# Altium schematic symbol library kmilo17pet-TI_RS232.SchLib: 1272 symbols (part 28 of 37)
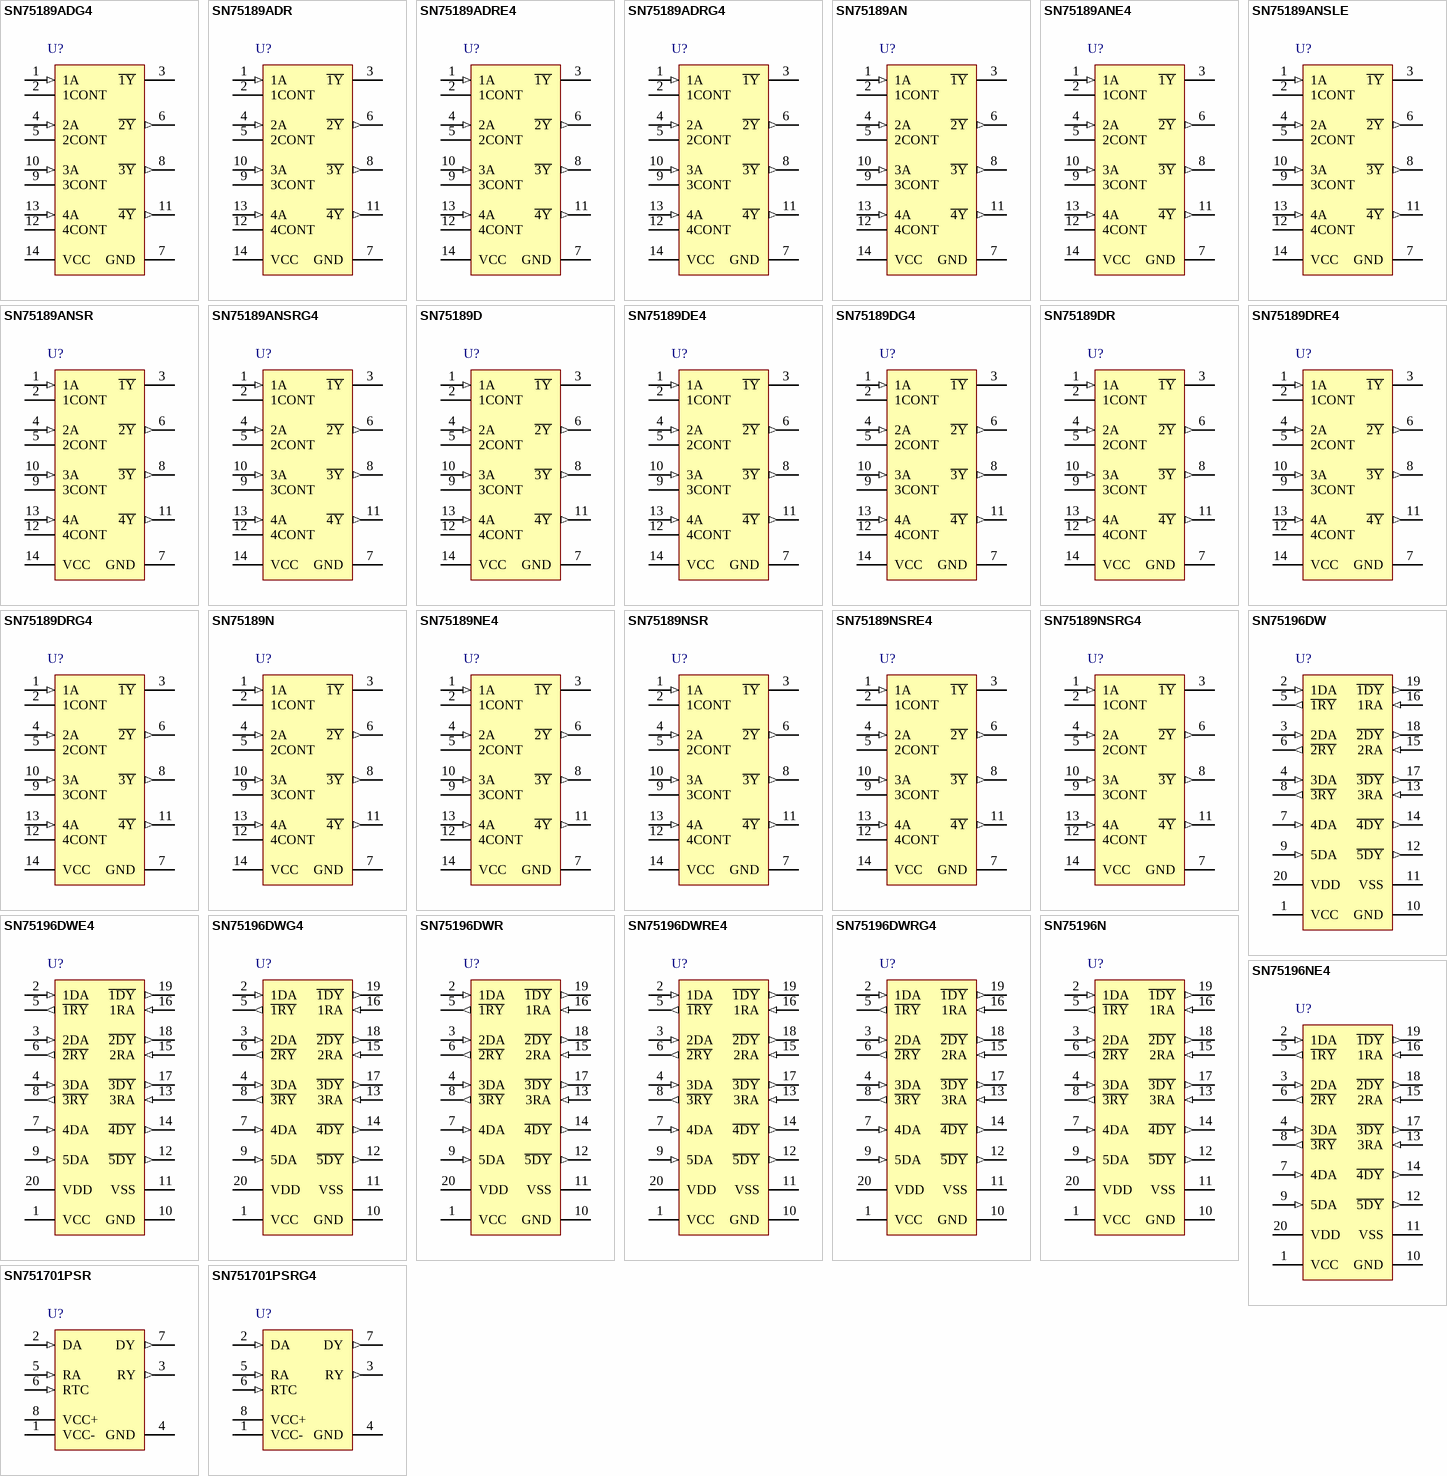
[diagram p81: symbols SN75189ADG4 to SN751701PSRG4]

## SN75196DW
designator U?
Multiple RS-232 Driver / Receiver, 0 to 70 degC, 20-Pin SOIC (DW), Green (RoHS & no Sb/Br); Drivers Per Package: 5; Receivers Per Package: 3; Supply Voltage(s)(V): +/-9.0 & 5.0; ESD HBM(kV): +/-10; ICC(Max)(mA): +/-32 & 20; RS-232: TRUE; DatasheetVersion: SLLS188B; PackageVersion: revG, Jan-2011; PackageReference: DW20; PackageDescription: 20-Pin Plastic Small Outline Integrated Circuit, 12.8 x 7.5 mm, Pitch 1.27 mm Pitch; SubFamily: RS-232; ComponentLink1Description: Manufacturer URL; ComponentLink1URL: www.ti.com; ComponentLink2Description: Datasheet; ComponentLink2URL: http://www.ti.com/general/docs/lit/getliterature.tsp?genericPartNumber=SN75196&fileType=pdf; ComponentLink3Description: Package Specification; ComponentLink3URL: http://www.ti.com/litv/pdf/mpds173a
footprint TI-DW20_N (SOIC, 20-Leads, Body 12.8x7.5mm, Pitch 1.27mm, IPC Medium Density)
footprint TI-DW20_L (SOIC, 20-Leads, Body 12.8x7.5mm, Pitch 1.27mm, IPC High Density)
footprint TI-DW20_M (SOIC, 20-Leads, Body 12.8x7.5mm, Pitch 1.27mm, IPC Low Density)
pins: 1 VCC (power), 2 1DA (in), 3 2DA (in), 4 3DA (in), 5 ~{1RY} (out), 6 ~{2RY} (out), 7 4DA (in), 8 ~{3RY} (out), 9 5DA (in), 10 GND (power), 11 VSS (power), 12 ~{5DY} (out), 13 3RA (in), 14 ~{4DY} (out), 15 2RA (in), 16 1RA (in), 17 ~{3DY} (out), 18 ~{2DY} (out), 19 ~{1DY} (out), 20 VDD (power)

## SN75196DWE4
designator U?
Multiple RS-232 Driver / Receiver, 0 to 70 degC, 20-Pin SOIC (DW), Green (RoHS & no Sb/Br); Drivers Per Package: 5; Receivers Per Package: 3; Supply Voltage(s)(V): +/-9.0 & 5.0; ESD HBM(kV): +/-10; ICC(Max)(mA): +/-32 & 20; RS-232: TRUE; DatasheetVersion: SLLS188B; PackageVersion: revG, Jan-2011; PackageReference: DW20; PackageDescription: 20-Pin Plastic Small Outline Integrated Circuit, 12.8 x 7.5 mm, Pitch 1.27 mm Pitch; SubFamily: RS-232; ComponentLink1Description: Manufacturer URL; ComponentLink1URL: www.ti.com; ComponentLink2Description: Datasheet; ComponentLink2URL: http://www.ti.com/general/docs/lit/getliterature.tsp?genericPartNumber=SN75196&fileType=pdf; ComponentLink3Description: Package Specification; ComponentLink3URL: http://www.ti.com/litv/pdf/mpds173a
footprint TI-DW20_N (SOIC, 20-Leads, Body 12.8x7.5mm, Pitch 1.27mm, IPC Medium Density)
footprint TI-DW20_L (SOIC, 20-Leads, Body 12.8x7.5mm, Pitch 1.27mm, IPC High Density)
footprint TI-DW20_M (SOIC, 20-Leads, Body 12.8x7.5mm, Pitch 1.27mm, IPC Low Density)
pins: 1 VCC (power), 2 1DA (in), 3 2DA (in), 4 3DA (in), 5 ~{1RY} (out), 6 ~{2RY} (out), 7 4DA (in), 8 ~{3RY} (out), 9 5DA (in), 10 GND (power), 11 VSS (power), 12 ~{5DY} (out), 13 3RA (in), 14 ~{4DY} (out), 15 2RA (in), 16 1RA (in), 17 ~{3DY} (out), 18 ~{2DY} (out), 19 ~{1DY} (out), 20 VDD (power)

## SN75196DWG4
designator U?
Multiple RS-232 Driver / Receiver, 0 to 70 degC, 20-Pin SOIC (DW), Green (RoHS & no Sb/Br); Drivers Per Package: 5; Receivers Per Package: 3; Supply Voltage(s)(V): +/-9.0 & 5.0; ESD HBM(kV): +/-10; ICC(Max)(mA): +/-32 & 20; RS-232: TRUE; DatasheetVersion: SLLS188B; PackageVersion: revG, Jan-2011; PackageReference: DW20; PackageDescription: 20-Pin Plastic Small Outline Integrated Circuit, 12.8 x 7.5 mm, Pitch 1.27 mm Pitch; SubFamily: RS-232; ComponentLink1Description: Manufacturer URL; ComponentLink1URL: www.ti.com; ComponentLink2Description: Datasheet; ComponentLink2URL: http://www.ti.com/general/docs/lit/getliterature.tsp?genericPartNumber=SN75196&fileType=pdf; ComponentLink3Description: Package Specification; ComponentLink3URL: http://www.ti.com/litv/pdf/mpds173a
footprint TI-DW20_N (SOIC, 20-Leads, Body 12.8x7.5mm, Pitch 1.27mm, IPC Medium Density)
footprint TI-DW20_L (SOIC, 20-Leads, Body 12.8x7.5mm, Pitch 1.27mm, IPC High Density)
footprint TI-DW20_M (SOIC, 20-Leads, Body 12.8x7.5mm, Pitch 1.27mm, IPC Low Density)
pins: 1 VCC (power), 2 1DA (in), 3 2DA (in), 4 3DA (in), 5 ~{1RY} (out), 6 ~{2RY} (out), 7 4DA (in), 8 ~{3RY} (out), 9 5DA (in), 10 GND (power), 11 VSS (power), 12 ~{5DY} (out), 13 3RA (in), 14 ~{4DY} (out), 15 2RA (in), 16 1RA (in), 17 ~{3DY} (out), 18 ~{2DY} (out), 19 ~{1DY} (out), 20 VDD (power)

## SN75196DWR
designator U?
Multiple RS-232 Driver / Receiver, 0 to 70 degC, 20-Pin SOIC (DW), Green (RoHS & no Sb/Br); Drivers Per Package: 5; Receivers Per Package: 3; Supply Voltage(s)(V): +/-9.0 & 5.0; ESD HBM(kV): +/-10; ICC(Max)(mA): +/-32 & 20; RS-232: TRUE; DatasheetVersion: SLLS188B; PackageVersion: revG, Jan-2011; PackageReference: DW20; PackageDescription: 20-Pin Plastic Small Outline Integrated Circuit, 12.8 x 7.5 mm, Pitch 1.27 mm Pitch; SubFamily: RS-232; ComponentLink1Description: Manufacturer URL; ComponentLink1URL: www.ti.com; ComponentLink2Description: Datasheet; ComponentLink2URL: http://www.ti.com/general/docs/lit/getliterature.tsp?genericPartNumber=SN75196&fileType=pdf; ComponentLink3Description: Package Specification; ComponentLink3URL: http://www.ti.com/litv/pdf/mpds173a
footprint TI-DW20_N (SOIC, 20-Leads, Body 12.8x7.5mm, Pitch 1.27mm, IPC Medium Density)
footprint TI-DW20_L (SOIC, 20-Leads, Body 12.8x7.5mm, Pitch 1.27mm, IPC High Density)
footprint TI-DW20_M (SOIC, 20-Leads, Body 12.8x7.5mm, Pitch 1.27mm, IPC Low Density)
pins: 1 VCC (power), 2 1DA (in), 3 2DA (in), 4 3DA (in), 5 ~{1RY} (out), 6 ~{2RY} (out), 7 4DA (in), 8 ~{3RY} (out), 9 5DA (in), 10 GND (power), 11 VSS (power), 12 ~{5DY} (out), 13 3RA (in), 14 ~{4DY} (out), 15 2RA (in), 16 1RA (in), 17 ~{3DY} (out), 18 ~{2DY} (out), 19 ~{1DY} (out), 20 VDD (power)

## SN75196DWRE4
designator U?
Multiple RS-232 Driver / Receiver, 0 to 70 degC, 20-Pin SOIC (DW), Green (RoHS & no Sb/Br); Drivers Per Package: 5; Receivers Per Package: 3; Supply Voltage(s)(V): +/-9.0 & 5.0; ESD HBM(kV): +/-10; ICC(Max)(mA): +/-32 & 20; RS-232: TRUE; DatasheetVersion: SLLS188B; PackageVersion: revG, Jan-2011; PackageReference: DW20; PackageDescription: 20-Pin Plastic Small Outline Integrated Circuit, 12.8 x 7.5 mm, Pitch 1.27 mm Pitch; SubFamily: RS-232; ComponentLink1Description: Manufacturer URL; ComponentLink1URL: www.ti.com; ComponentLink2Description: Datasheet; ComponentLink2URL: http://www.ti.com/general/docs/lit/getliterature.tsp?genericPartNumber=SN75196&fileType=pdf; ComponentLink3Description: Package Specification; ComponentLink3URL: http://www.ti.com/litv/pdf/mpds173a
footprint TI-DW20_N (SOIC, 20-Leads, Body 12.8x7.5mm, Pitch 1.27mm, IPC Medium Density)
footprint TI-DW20_L (SOIC, 20-Leads, Body 12.8x7.5mm, Pitch 1.27mm, IPC High Density)
footprint TI-DW20_M (SOIC, 20-Leads, Body 12.8x7.5mm, Pitch 1.27mm, IPC Low Density)
pins: 1 VCC (power), 2 1DA (in), 3 2DA (in), 4 3DA (in), 5 ~{1RY} (out), 6 ~{2RY} (out), 7 4DA (in), 8 ~{3RY} (out), 9 5DA (in), 10 GND (power), 11 VSS (power), 12 ~{5DY} (out), 13 3RA (in), 14 ~{4DY} (out), 15 2RA (in), 16 1RA (in), 17 ~{3DY} (out), 18 ~{2DY} (out), 19 ~{1DY} (out), 20 VDD (power)

## SN75196DWRG4
designator U?
Multiple RS-232 Driver / Receiver, 0 to 70 degC, 20-Pin SOIC (DW), Green (RoHS & no Sb/Br); Drivers Per Package: 5; Receivers Per Package: 3; Supply Voltage(s)(V): +/-9.0 & 5.0; ESD HBM(kV): +/-10; ICC(Max)(mA): +/-32 & 20; RS-232: TRUE; DatasheetVersion: SLLS188B; PackageVersion: revG, Jan-2011; PackageReference: DW20; PackageDescription: 20-Pin Plastic Small Outline Integrated Circuit, 12.8 x 7.5 mm, Pitch 1.27 mm Pitch; SubFamily: RS-232; ComponentLink1Description: Manufacturer URL; ComponentLink1URL: www.ti.com; ComponentLink2Description: Datasheet; ComponentLink2URL: http://www.ti.com/general/docs/lit/getliterature.tsp?genericPartNumber=SN75196&fileType=pdf; ComponentLink3Description: Package Specification; ComponentLink3URL: http://www.ti.com/litv/pdf/mpds173a
footprint TI-DW20_N (SOIC, 20-Leads, Body 12.8x7.5mm, Pitch 1.27mm, IPC Medium Density)
footprint TI-DW20_L (SOIC, 20-Leads, Body 12.8x7.5mm, Pitch 1.27mm, IPC High Density)
footprint TI-DW20_M (SOIC, 20-Leads, Body 12.8x7.5mm, Pitch 1.27mm, IPC Low Density)
pins: 1 VCC (power), 2 1DA (in), 3 2DA (in), 4 3DA (in), 5 ~{1RY} (out), 6 ~{2RY} (out), 7 4DA (in), 8 ~{3RY} (out), 9 5DA (in), 10 GND (power), 11 VSS (power), 12 ~{5DY} (out), 13 3RA (in), 14 ~{4DY} (out), 15 2RA (in), 16 1RA (in), 17 ~{3DY} (out), 18 ~{2DY} (out), 19 ~{1DY} (out), 20 VDD (power)

## SN75196N
designator U?
Multiple RS-232 Driver / Receiver, 0 to 70 degC, 20-Pin PDIP (N), Pb-Free (RoHS); Drivers Per Package: 5; Receivers Per Package: 3; Supply Voltage(s)(V): +/-9.0 & 5.0; ESD HBM(kV): +/-10; ICC(Max)(mA): +/-32 & 20; RS-232: TRUE; DatasheetVersion: SLLS188B; PackageVersion: revE, Dec-2002; PackageReference: N20; PackageDescription: 20-Pin Plastic Dual-In-Line Package, Row Spacing 7.62 mm, Pitch 2.54 mm; SubFamily: RS-232; ComponentLink1Description: Manufacturer URL; ComponentLink1URL: www.ti.com; ComponentLink2Description: Datasheet; ComponentLink2URL: http://www.ti.com/general/docs/lit/getliterature.tsp?genericPartNumber=SN75196&fileType=pdf; ComponentLink3Description: Package Specification; ComponentLink3URL: http://www.ti.com/litv/pdf/mpdi002c
footprint TI-N20 (DIP, 20-Leads, Row Spacing 7.62mm, Pitch 2.54mm, Body 25.4x6.4mm)
pins: 1 VCC (power), 2 1DA (in), 3 2DA (in), 4 3DA (in), 5 ~{1RY} (out), 6 ~{2RY} (out), 7 4DA (in), 8 ~{3RY} (out), 9 5DA (in), 10 GND (power), 11 VSS (power), 12 ~{5DY} (out), 13 3RA (in), 14 ~{4DY} (out), 15 2RA (in), 16 1RA (in), 17 ~{3DY} (out), 18 ~{2DY} (out), 19 ~{1DY} (out), 20 VDD (power)

## SN75196NE4
designator U?
Multiple RS-232 Driver / Receiver, 0 to 70 degC, 20-Pin PDIP (N), Pb-Free (RoHS); Drivers Per Package: 5; Receivers Per Package: 3; Supply Voltage(s)(V): +/-9.0 & 5.0; ESD HBM(kV): +/-10; ICC(Max)(mA): +/-32 & 20; RS-232: TRUE; DatasheetVersion: SLLS188B; PackageVersion: revE, Dec-2002; PackageReference: N20; PackageDescription: 20-Pin Plastic Dual-In-Line Package, Row Spacing 7.62 mm, Pitch 2.54 mm; SubFamily: RS-232; ComponentLink1Description: Manufacturer URL; ComponentLink1URL: www.ti.com; ComponentLink2Description: Datasheet; ComponentLink2URL: http://www.ti.com/general/docs/lit/getliterature.tsp?genericPartNumber=SN75196&fileType=pdf; ComponentLink3Description: Package Specification; ComponentLink3URL: http://www.ti.com/litv/pdf/mpdi002c
footprint TI-N20 (DIP, 20-Leads, Row Spacing 7.62mm, Pitch 2.54mm, Body 25.4x6.4mm)
pins: 1 VCC (power), 2 1DA (in), 3 2DA (in), 4 3DA (in), 5 ~{1RY} (out), 6 ~{2RY} (out), 7 4DA (in), 8 ~{3RY} (out), 9 5DA (in), 10 GND (power), 11 VSS (power), 12 ~{5DY} (out), 13 3RA (in), 14 ~{4DY} (out), 15 2RA (in), 16 1RA (in), 17 ~{3DY} (out), 18 ~{2DY} (out), 19 ~{1DY} (out), 20 VDD (power)

## SN751701PSR
designator U?
Line Driver and Receiver, -20 to 70 degC, 8-Pin SO (PS), Green (RoHS & no Sb/Br); SubFamily: RS-232; Drivers Per Package: 1; Supply Voltage(s)(V): +/-12.0; ICC(Max)(mA): +14/-6.1; RS-232: TRUE; DatasheetVersion: SLLS531; PackageVersion: revC, Mar-2003; PackageReference: PS8; PackageDescription: 8-Pin Plastic Small Outline Package, 6.2 x 5.3 mm, Pitch 1.27 mm Pitch; Receivers Per Package: 1; ComponentLink1Description: Manufacturer URL; ComponentLink1URL: www.ti.com; ComponentLink2Description: Datasheet; ComponentLink2URL: http://www.ti.com/general/docs/lit/getliterature.tsp?genericPartNumber=SN751701&fileType=pdf; ComponentLink3Description: Package Specification; ComponentLink3URL: http://www.ti.com/litv/pdf/msop001a
footprint TI-PS8_N (SOP, 8-Leads, Body 6.2x5.3mm, Pitch 1.27mm, IPC Medium Density)
footprint TI-PS8_L (SOP, 8-Leads, Body 6.2x5.3mm, Pitch 1.27mm, IPC High Density)
footprint TI-PS8_M (SOP, 8-Leads, Body 6.2x5.3mm, Pitch 1.27mm, IPC Low Density)
pins: 1 VCC- (power), 2 DA (in), 3 RY (out), 4 GND (power), 5 RA (in), 6 RTC (in), 7 DY (out), 8 VCC+ (power)

## SN751701PSRG4
designator U?
Line Driver and Receiver, -20 to 70 degC, 8-Pin SO (PS), Green (RoHS & no Sb/Br); SubFamily: RS-232; Drivers Per Package: 1; Supply Voltage(s)(V): +/-12.0; ICC(Max)(mA): +14/-6.1; RS-232: TRUE; DatasheetVersion: SLLS531; PackageVersion: revC, Mar-2003; PackageReference: PS8; PackageDescription: 8-Pin Plastic Small Outline Package, 6.2 x 5.3 mm, Pitch 1.27 mm Pitch; Receivers Per Package: 1; ComponentLink1Description: Manufacturer URL; ComponentLink1URL: www.ti.com; ComponentLink2Description: Datasheet; ComponentLink2URL: http://www.ti.com/general/docs/lit/getliterature.tsp?genericPartNumber=SN751701&fileType=pdf; ComponentLink3Description: Package Specification; ComponentLink3URL: http://www.ti.com/litv/pdf/msop001a
footprint TI-PS8_N (SOP, 8-Leads, Body 6.2x5.3mm, Pitch 1.27mm, IPC Medium Density)
footprint TI-PS8_L (SOP, 8-Leads, Body 6.2x5.3mm, Pitch 1.27mm, IPC High Density)
footprint TI-PS8_M (SOP, 8-Leads, Body 6.2x5.3mm, Pitch 1.27mm, IPC Low Density)
pins: 1 VCC- (power), 2 DA (in), 3 RY (out), 4 GND (power), 5 RA (in), 6 RTC (in), 7 DY (out), 8 VCC+ (power)

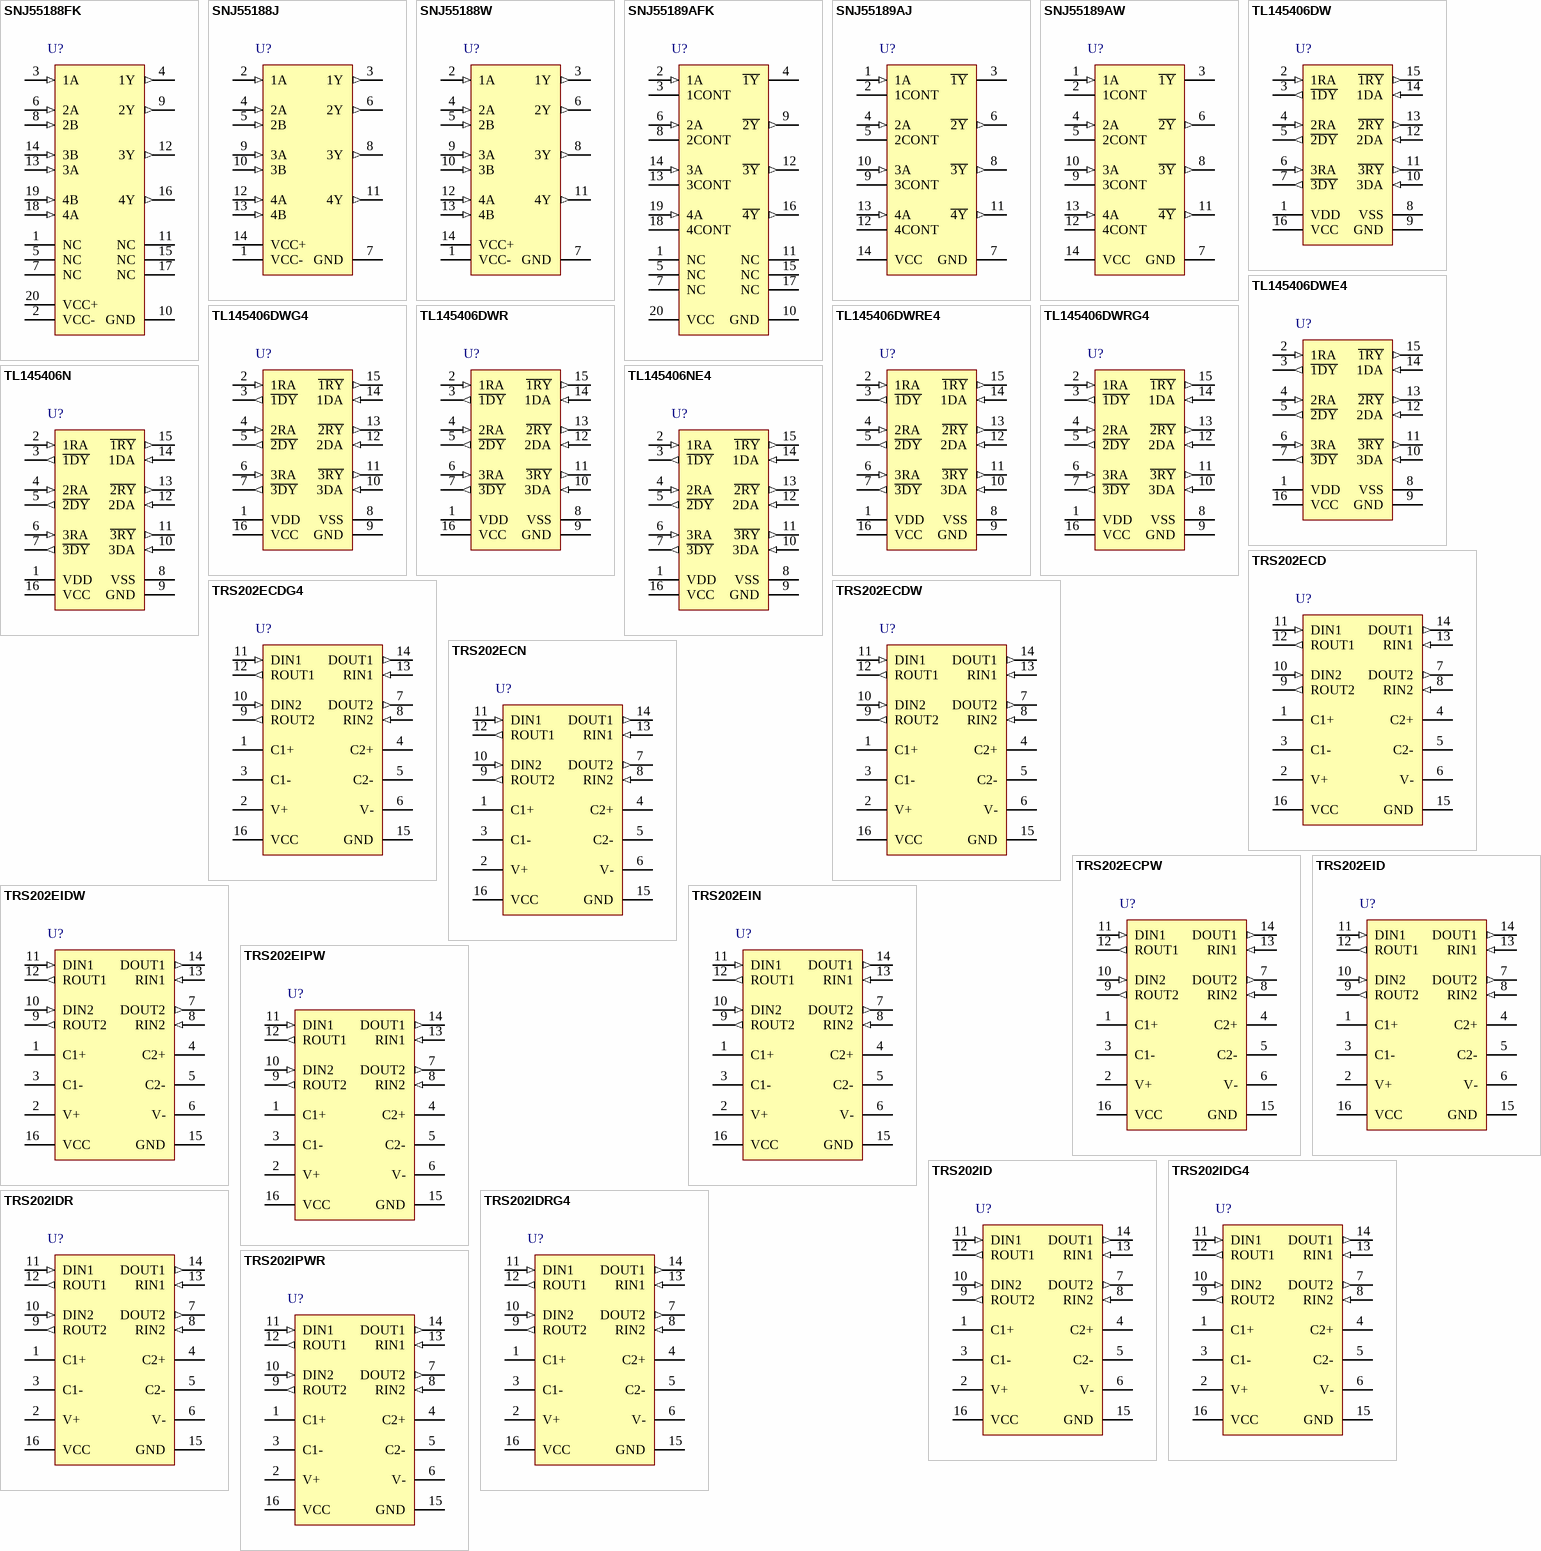
[diagram p41: symbols SNJ55188FK to TRS202IPWR]

## SNJ55188FK
designator U?
Quadruple Line Driver, -55 to 125 degC, 20-Pin LCCC (FK); SubFamily: RS-232; Drivers Per Package: 4; Supply Voltage(s)(V): +/-9.0; ICC(Max)(mA): +/-34; RS-232: TRUE; DatasheetVersion: SLLS094C; PackageVersion: revD, Jan-2011; PackageReference: FK20; PackageDescription: 20-Pin Leadless Ceramic Chip Carrier, 1.27 mm Pitch; ComponentLink1Description: Manufacturer URL; ComponentLink1URL: www.ti.com; ComponentLink2Description: Datasheet; ComponentLink2URL: http://www.ti.com/general/docs/lit/getliterature.tsp?genericPartNumber=SN55188&fileType=pdf; ComponentLink3Description: Package Specification; ComponentLink3URL: http://www.ti.com/litv/pdf/mlcc006d
footprint TI-FK20_N (Leadless Chip Carrier, 20-Leads, Body 8.9x8.9mm, Pitch 1.27mm, IPC Medium Density)
footprint TI-FK20_L (Leadless Chip Carrier, 20-Leads, Body 8.9x8.9mm, Pitch 1.27mm, IPC High Density)
footprint TI-FK20_M (Leadless Chip Carrier, 20-Leads, Body 8.9x8.9mm, Pitch 1.27mm, IPC Low Density)
pins: 1 NC, 2 VCC- (power), 3 1A (in), 4 1Y (out), 5 NC, 6 2A (in), 7 NC, 8 2B (in), 9 2Y (out), 10 GND (power), 11 NC, 12 3Y (out), 13 3A (in), 14 3B (in), 15 NC, 16 4Y (out), 17 NC, 18 4A (in), 19 4B (in), 20 VCC+ (power)

## SNJ55188J
designator U?
Quadruple Line Driver, -55 to 125 degC, 14-Pin CDIP (J); SubFamily: RS-232; Drivers Per Package: 4; Supply Voltage(s)(V): +/-9.0; ICC(Max)(mA): +/-34; RS-232: TRUE; DatasheetVersion: SLLS094C; PackageVersion: revF, Mar-2003; PackageReference: J14; PackageDescription: 14-Pin Ceramic Dual-In-Line Package, Row Spacing 7.62 mm, Pitch 2.54 mm; ComponentLink1Description: Manufacturer URL; ComponentLink1URL: www.ti.com; ComponentLink2Description: Datasheet; ComponentLink2URL: http://www.ti.com/general/docs/lit/getliterature.tsp?genericPartNumber=SN55188&fileType=pdf; ComponentLink3Description: Package Specification; ComponentLink3URL: http://www.ti.com/litv/pdf/mcer002d
footprint TI-J14 (DIP, 14-Leads, Row Spacing 7.62mm, Pitch 2.54mm, Body 19.9x6.9mm)
pins: 1 VCC- (power), 2 1A (in), 3 1Y (out), 4 2A (in), 5 2B (in), 6 2Y (out), 7 GND (power), 8 3Y (out), 9 3A (in), 10 3B (in), 11 4Y (out), 12 4A (in), 13 4B (in), 14 VCC+ (power)

## SNJ55188W
designator U?
Quadruple Line Driver, -55 to 125 degC, 14-Pin CFP (W); SubFamily: RS-232; Drivers Per Package: 4; Supply Voltage(s)(V): +/-9.0; ICC(Max)(mA): +/-34; RS-232: TRUE; DatasheetVersion: SLLS094C; PackageVersion: revD, Jul-2003; PackageReference: W14; PackageDescription: 14-Lead Ceramic Dual Flatpack, Body 9.9 x 6.6 mm (LxW max), Pitch 1.27 mm; ComponentLink1Description: Manufacturer URL; ComponentLink1URL: www.ti.com; ComponentLink2Description: Datasheet; ComponentLink2URL: http://www.ti.com/general/docs/lit/getliterature.tsp?genericPartNumber=SN55188&fileType=pdf; ComponentLink3Description: Package Specification; ComponentLink3URL: http://www.ti.com/litv/pdf/mcfp002a
footprint TI-W14 (DFP, 14 Leads, Body 9.2x6.3mm, Pitch 1.27mm, Gullwing Leadform)
pins: 1 VCC- (power), 2 1A (in), 3 1Y (out), 4 2A (in), 5 2B (in), 6 2Y (out), 7 GND (power), 8 3Y (out), 9 3A (in), 10 3B (in), 11 4Y (out), 12 4A (in), 13 4B (in), 14 VCC+ (power)

## SNJ55189AFK
designator U?
Quadruple Line Receiver, -55 to 125 degC, 20-Pin LCCC (FK); SubFamily: RS-232; Receivers Per Package: 4; Supply Voltage(s)(V): 5; ICC(Max)(mA): 26; Single Supply: TRUE; DatasheetVersion: SLLS095D; PackageVersion: revD, Jan-2011; PackageReference: FK20; PackageDescription: 20-Pin Leadless Ceramic Chip Carrier, 1.27 mm Pitch; RS-232: TRUE; ComponentLink1Description: Manufacturer URL; ComponentLink1URL: www.ti.com; ComponentLink2Description: Datasheet; ComponentLink2URL: http://www.ti.com/general/docs/lit/getliterature.tsp?genericPartNumber=SN55189A&fileType=pdf; ComponentLink3Description: Package Specification; ComponentLink3URL: http://www.ti.com/litv/pdf/mlcc006d
footprint TI-FK20_N (Leadless Chip Carrier, 20-Leads, Body 8.9x8.9mm, Pitch 1.27mm, IPC Medium Density)
footprint TI-FK20_L (Leadless Chip Carrier, 20-Leads, Body 8.9x8.9mm, Pitch 1.27mm, IPC High Density)
footprint TI-FK20_M (Leadless Chip Carrier, 20-Leads, Body 8.9x8.9mm, Pitch 1.27mm, IPC Low Density)
pins: 1 NC, 2 1A (in), 3 1CONT, 4 ~{1Y} (oc), 5 NC, 6 2A (in), 7 NC, 8 2CONT, 9 ~{2Y} (out), 10 GND (power), 11 NC, 12 ~{3Y} (out), 13 3CONT, 14 3A (in), 15 NC, 16 ~{4Y} (out), 17 NC, 18 4CONT, 19 4A (in), 20 VCC (power)

## SNJ55189AJ
designator U?
Quadruple Line Receiver, -55 to 125 degC, 14-Pin CDIP (J); SubFamily: RS-232; Receivers Per Package: 4; Supply Voltage(s)(V): 5; ICC(Max)(mA): 26; Single Supply: TRUE; DatasheetVersion: SLLS095D; PackageVersion: revF, Mar-2003; PackageReference: J14; PackageDescription: 14-Pin Ceramic Dual-In-Line Package, Row Spacing 7.62 mm, Pitch 2.54 mm; RS-232: TRUE; ComponentLink1Description: Manufacturer URL; ComponentLink1URL: www.ti.com; ComponentLink2Description: Datasheet; ComponentLink2URL: http://www.ti.com/general/docs/lit/getliterature.tsp?genericPartNumber=SN55189A&fileType=pdf; ComponentLink3Description: Package Specification; ComponentLink3URL: http://www.ti.com/litv/pdf/mcer002d
footprint TI-J14 (DIP, 14-Leads, Row Spacing 7.62mm, Pitch 2.54mm, Body 19.9x6.9mm)
pins: 1 1A (in), 2 1CONT, 3 ~{1Y} (oc), 4 2A (in), 5 2CONT, 6 ~{2Y} (out), 7 GND (power), 8 ~{3Y} (out), 9 3CONT, 10 3A (in), 11 ~{4Y} (out), 12 4CONT, 13 4A (in), 14 VCC (power)

## SNJ55189AW
designator U?
Quadruple Line Receiver, -55 to 125 degC, 14-Pin CFP (W); SubFamily: RS-232; Receivers Per Package: 4; Supply Voltage(s)(V): 5; ICC(Max)(mA): 26; Single Supply: TRUE; DatasheetVersion: SLLS095D; PackageVersion: revD, Jul-2003; PackageReference: W14; PackageDescription: 14-Lead Ceramic Dual Flatpack, Body 9.9 x 6.6 mm (LxW max), Pitch 1.27 mm; RS-232: TRUE; ComponentLink1Description: Manufacturer URL; ComponentLink1URL: www.ti.com; ComponentLink2Description: Datasheet; ComponentLink2URL: http://www.ti.com/general/docs/lit/getliterature.tsp?genericPartNumber=SN55189A&fileType=pdf; ComponentLink3Description: Package Specification; ComponentLink3URL: http://www.ti.com/litv/pdf/mcfp002a
footprint TI-W14 (DFP, 14 Leads, Body 9.2x6.3mm, Pitch 1.27mm, Gullwing Leadform)
pins: 1 1A (in), 2 1CONT, 3 ~{1Y} (oc), 4 2A (in), 5 2CONT, 6 ~{2Y} (out), 7 GND (power), 8 ~{3Y} (out), 9 3CONT, 10 3A (in), 11 ~{4Y} (out), 12 4CONT, 13 4A (in), 14 VCC (power)

## TL145406DW
designator U?
Triple RS-232 Driver / Receiver, 0 to 70 degC, 16-Pin  SOIC (DW),  Green (RoHS & no Sb/Br); Drivers Per Package: 3; Supply Voltage(s)(V): +/-9.0 & 5.0; ESD HBM(kV): +/-2; ICC(Max)(mA): +/-25 & 20; RS-232: TRUE; DatasheetVersion: SLLS185D; PackageVersion: revG, Jan-2011; PackageReference: DW16; PackageDescription: 16-Pin Small Outline Integrated Circuit, 10.3 x 7.5 mm, Pitch 1.27 mm Pitch; SubFamily: RS-232; Receivers Per Package: 3; ComponentLink1Description: Manufacturer URL; ComponentLink1URL: www.ti.com; ComponentLink2Description: Datasheet; ComponentLink2URL: http://www.ti.com/general/docs/lit/getliterature.tsp?genericPartNumber=TL145406&fileType=pdf; ComponentLink3Description: Package Specification; ComponentLink3URL: http://www.ti.com/litv/pdf/mpds173a
footprint TI-DW16_N (SOIC, 16-Leads, Body 10.3x7.5mm, Pitch 1.27mm, IPC Medium Density)
footprint TI-DW16_L (SOIC, 16-Leads, Body 10.3x7.5mm, Pitch 1.27mm, IPC High Density)
footprint TI-DW16_M (SOIC, 16-Leads, Body 10.3x7.5mm, Pitch 1.27mm, IPC Low Density)
pins: 1 VDD (power), 2 1RA (in), 3 ~{1DY} (out), 4 2RA (in), 5 ~{2DY} (out), 6 3RA (in), 7 ~{3DY} (out), 8 VSS (power), 9 GND (power), 10 3DA (in), 11 ~{3RY} (out), 12 2DA (in), 13 ~{2RY} (out), 14 1DA (in), 15 ~{1RY} (out), 16 VCC (power)

## TL145406DWE4
designator U?
Triple RS-232 Driver / Receiver, 0 to 70 degC, 16-Pin  SOIC (DW),  Green (RoHS & no Sb/Br); Drivers Per Package: 3; Supply Voltage(s)(V): +/-9.0 & 5.0; ESD HBM(kV): +/-2; ICC(Max)(mA): +/-25 & 20; RS-232: TRUE; DatasheetVersion: SLLS185D; PackageVersion: revG, Jan-2011; PackageReference: DW16; PackageDescription: 16-Pin Small Outline Integrated Circuit, 10.3 x 7.5 mm, Pitch 1.27 mm Pitch; SubFamily: RS-232; Receivers Per Package: 3; ComponentLink1Description: Manufacturer URL; ComponentLink1URL: www.ti.com; ComponentLink2Description: Datasheet; ComponentLink2URL: http://www.ti.com/general/docs/lit/getliterature.tsp?genericPartNumber=TL145406&fileType=pdf; ComponentLink3Description: Package Specification; ComponentLink3URL: http://www.ti.com/litv/pdf/mpds173a
footprint TI-DW16_N (SOIC, 16-Leads, Body 10.3x7.5mm, Pitch 1.27mm, IPC Medium Density)
footprint TI-DW16_L (SOIC, 16-Leads, Body 10.3x7.5mm, Pitch 1.27mm, IPC High Density)
footprint TI-DW16_M (SOIC, 16-Leads, Body 10.3x7.5mm, Pitch 1.27mm, IPC Low Density)
pins: 1 VDD (power), 2 1RA (in), 3 ~{1DY} (out), 4 2RA (in), 5 ~{2DY} (out), 6 3RA (in), 7 ~{3DY} (out), 8 VSS (power), 9 GND (power), 10 3DA (in), 11 ~{3RY} (out), 12 2DA (in), 13 ~{2RY} (out), 14 1DA (in), 15 ~{1RY} (out), 16 VCC (power)

## TL145406DWG4
designator U?
Triple RS-232 Driver / Receiver, 0 to 70 degC, 16-Pin  SOIC (DW),  Green (RoHS & no Sb/Br); Drivers Per Package: 3; Supply Voltage(s)(V): +/-9.0 & 5.0; ESD HBM(kV): +/-2; ICC(Max)(mA): +/-25 & 20; RS-232: TRUE; DatasheetVersion: SLLS185D; PackageVersion: revG, Jan-2011; PackageReference: DW16; PackageDescription: 16-Pin Small Outline Integrated Circuit, 10.3 x 7.5 mm, Pitch 1.27 mm Pitch; SubFamily: RS-232; Receivers Per Package: 3; ComponentLink1Description: Manufacturer URL; ComponentLink1URL: www.ti.com; ComponentLink2Description: Datasheet; ComponentLink2URL: http://www.ti.com/general/docs/lit/getliterature.tsp?genericPartNumber=TL145406&fileType=pdf; ComponentLink3Description: Package Specification; ComponentLink3URL: http://www.ti.com/litv/pdf/mpds173a
footprint TI-DW16_N (SOIC, 16-Leads, Body 10.3x7.5mm, Pitch 1.27mm, IPC Medium Density)
footprint TI-DW16_L (SOIC, 16-Leads, Body 10.3x7.5mm, Pitch 1.27mm, IPC High Density)
footprint TI-DW16_M (SOIC, 16-Leads, Body 10.3x7.5mm, Pitch 1.27mm, IPC Low Density)
pins: 1 VDD (power), 2 1RA (in), 3 ~{1DY} (out), 4 2RA (in), 5 ~{2DY} (out), 6 3RA (in), 7 ~{3DY} (out), 8 VSS (power), 9 GND (power), 10 3DA (in), 11 ~{3RY} (out), 12 2DA (in), 13 ~{2RY} (out), 14 1DA (in), 15 ~{1RY} (out), 16 VCC (power)

## TL145406DWR
designator U?
Triple RS-232 Driver / Receiver, 0 to 70 degC, 16-Pin  SOIC (DW),  Green (RoHS & no Sb/Br); Drivers Per Package: 3; Supply Voltage(s)(V): +/-9.0 & 5.0; ESD HBM(kV): +/-2; ICC(Max)(mA): +/-25 & 20; RS-232: TRUE; DatasheetVersion: SLLS185D; PackageVersion: revG, Jan-2011; PackageReference: DW16; PackageDescription: 16-Pin Small Outline Integrated Circuit, 10.3 x 7.5 mm, Pitch 1.27 mm Pitch; SubFamily: RS-232; Receivers Per Package: 3; ComponentLink1Description: Manufacturer URL; ComponentLink1URL: www.ti.com; ComponentLink2Description: Datasheet; ComponentLink2URL: http://www.ti.com/general/docs/lit/getliterature.tsp?genericPartNumber=TL145406&fileType=pdf; ComponentLink3Description: Package Specification; ComponentLink3URL: http://www.ti.com/litv/pdf/mpds173a
footprint TI-DW16_N (SOIC, 16-Leads, Body 10.3x7.5mm, Pitch 1.27mm, IPC Medium Density)
footprint TI-DW16_L (SOIC, 16-Leads, Body 10.3x7.5mm, Pitch 1.27mm, IPC High Density)
footprint TI-DW16_M (SOIC, 16-Leads, Body 10.3x7.5mm, Pitch 1.27mm, IPC Low Density)
pins: 1 VDD (power), 2 1RA (in), 3 ~{1DY} (out), 4 2RA (in), 5 ~{2DY} (out), 6 3RA (in), 7 ~{3DY} (out), 8 VSS (power), 9 GND (power), 10 3DA (in), 11 ~{3RY} (out), 12 2DA (in), 13 ~{2RY} (out), 14 1DA (in), 15 ~{1RY} (out), 16 VCC (power)

## TL145406DWRE4
designator U?
Triple RS-232 Driver / Receiver, 0 to 70 degC, 16-Pin  SOIC (DW),  Green (RoHS & no Sb/Br); Drivers Per Package: 3; Supply Voltage(s)(V): +/-9.0 & 5.0; ESD HBM(kV): +/-2; ICC(Max)(mA): +/-25 & 20; RS-232: TRUE; DatasheetVersion: SLLS185D; PackageVersion: revG, Jan-2011; PackageReference: DW16; PackageDescription: 16-Pin Small Outline Integrated Circuit, 10.3 x 7.5 mm, Pitch 1.27 mm Pitch; SubFamily: RS-232; Receivers Per Package: 3; ComponentLink1Description: Manufacturer URL; ComponentLink1URL: www.ti.com; ComponentLink2Description: Datasheet; ComponentLink2URL: http://www.ti.com/general/docs/lit/getliterature.tsp?genericPartNumber=TL145406&fileType=pdf; ComponentLink3Description: Package Specification; ComponentLink3URL: http://www.ti.com/litv/pdf/mpds173a
footprint TI-DW16_N (SOIC, 16-Leads, Body 10.3x7.5mm, Pitch 1.27mm, IPC Medium Density)
footprint TI-DW16_L (SOIC, 16-Leads, Body 10.3x7.5mm, Pitch 1.27mm, IPC High Density)
footprint TI-DW16_M (SOIC, 16-Leads, Body 10.3x7.5mm, Pitch 1.27mm, IPC Low Density)
pins: 1 VDD (power), 2 1RA (in), 3 ~{1DY} (out), 4 2RA (in), 5 ~{2DY} (out), 6 3RA (in), 7 ~{3DY} (out), 8 VSS (power), 9 GND (power), 10 3DA (in), 11 ~{3RY} (out), 12 2DA (in), 13 ~{2RY} (out), 14 1DA (in), 15 ~{1RY} (out), 16 VCC (power)

## TL145406DWRG4
designator U?
Triple RS-232 Driver / Receiver, 0 to 70 degC, 16-Pin  SOIC (DW),  Green (RoHS & no Sb/Br); Drivers Per Package: 3; Supply Voltage(s)(V): +/-9.0 & 5.0; ESD HBM(kV): +/-2; ICC(Max)(mA): +/-25 & 20; RS-232: TRUE; DatasheetVersion: SLLS185D; PackageVersion: revG, Jan-2011; PackageReference: DW16; PackageDescription: 16-Pin Small Outline Integrated Circuit, 10.3 x 7.5 mm, Pitch 1.27 mm Pitch; SubFamily: RS-232; Receivers Per Package: 3; ComponentLink1Description: Manufacturer URL; ComponentLink1URL: www.ti.com; ComponentLink2Description: Datasheet; ComponentLink2URL: http://www.ti.com/general/docs/lit/getliterature.tsp?genericPartNumber=TL145406&fileType=pdf; ComponentLink3Description: Package Specification; ComponentLink3URL: http://www.ti.com/litv/pdf/mpds173a
footprint TI-DW16_N (SOIC, 16-Leads, Body 10.3x7.5mm, Pitch 1.27mm, IPC Medium Density)
footprint TI-DW16_L (SOIC, 16-Leads, Body 10.3x7.5mm, Pitch 1.27mm, IPC High Density)
footprint TI-DW16_M (SOIC, 16-Leads, Body 10.3x7.5mm, Pitch 1.27mm, IPC Low Density)
pins: 1 VDD (power), 2 1RA (in), 3 ~{1DY} (out), 4 2RA (in), 5 ~{2DY} (out), 6 3RA (in), 7 ~{3DY} (out), 8 VSS (power), 9 GND (power), 10 3DA (in), 11 ~{3RY} (out), 12 2DA (in), 13 ~{2RY} (out), 14 1DA (in), 15 ~{1RY} (out), 16 VCC (power)

## TL145406N
designator U?
Triple RS-232 Driver / Receiver, 0 to 70 degC, 16-Pin  PDIP (N),  Pb-Free (RoHS); Drivers Per Package: 3; Supply Voltage(s)(V): +/-9.0 & 5.0; ESD HBM(kV): +/-2; ICC(Max)(mA): +/-25 & 20; RS-232: TRUE; DatasheetVersion: SLLS185D; PackageVersion: revE, Dec-2002; PackageReference: N16; PackageDescription: 16-Pin Plastic Dual-In-Line Package, Row Spacing 7.62 mm, Pitch 2.54 mm; SubFamily: RS-232; Receivers Per Package: 3; ComponentLink1Description: Manufacturer URL; ComponentLink1URL: www.ti.com; ComponentLink2Description: Datasheet; ComponentLink2URL: http://www.ti.com/general/docs/lit/getliterature.tsp?genericPartNumber=TL145406&fileType=pdf; ComponentLink3Description: Package Specification; ComponentLink3URL: http://www.ti.com/litv/pdf/mpdi002c
footprint TI-N16 (DIP, 16-Leads, Row Spacing 7.62mm, Pitch 2.54mm, Body 19.3x6.4mm)
pins: 1 VDD (power), 2 1RA (in), 3 ~{1DY} (out), 4 2RA (in), 5 ~{2DY} (out), 6 3RA (in), 7 ~{3DY} (out), 8 VSS (power), 9 GND (power), 10 3DA (in), 11 ~{3RY} (out), 12 2DA (in), 13 ~{2RY} (out), 14 1DA (in), 15 ~{1RY} (out), 16 VCC (power)

## TL145406NE4
designator U?
Triple RS-232 Driver / Receiver, 0 to 70 degC, 16-Pin  PDIP (N),  Pb-Free (RoHS); Drivers Per Package: 3; Supply Voltage(s)(V): +/-9.0 & 5.0; ESD HBM(kV): +/-2; ICC(Max)(mA): +/-25 & 20; RS-232: TRUE; DatasheetVersion: SLLS185D; PackageVersion: revE, Dec-2002; PackageReference: N16; PackageDescription: 16-Pin Plastic Dual-In-Line Package, Row Spacing 7.62 mm, Pitch 2.54 mm; SubFamily: RS-232; Receivers Per Package: 3; ComponentLink1Description: Manufacturer URL; ComponentLink1URL: www.ti.com; ComponentLink2Description: Datasheet; ComponentLink2URL: http://www.ti.com/general/docs/lit/getliterature.tsp?genericPartNumber=TL145406&fileType=pdf; ComponentLink3Description: Package Specification; ComponentLink3URL: http://www.ti.com/litv/pdf/mpdi002c
footprint TI-N16 (DIP, 16-Leads, Row Spacing 7.62mm, Pitch 2.54mm, Body 19.3x6.4mm)
pins: 1 VDD (power), 2 1RA (in), 3 ~{1DY} (out), 4 2RA (in), 5 ~{2DY} (out), 6 3RA (in), 7 ~{3DY} (out), 8 VSS (power), 9 GND (power), 10 3DA (in), 11 ~{3RY} (out), 12 2DA (in), 13 ~{2RY} (out), 14 1DA (in), 15 ~{1RY} (out), 16 VCC (power)

## TRS202ECD
designator U?
5-V Dual RS-232 Line Driver / Receiver with ±15-kV ESD Protection,  0 to 70 degC, 16-Pin  SOIC (D),  Green (RoHS & no Sb/Br); Drivers Per Package: 2; Supply Voltage(s)(V): 5; ESD HBM(kV): +/-15; ICC(Max)(mA): 15; Single Supply: TRUE; DatasheetVersion: SLLS847C; PackageVersion: revM, Jun-2011; PackageReference: D16; PackageDescription: 16-Pin Plastic Small Outline Integrated Circuit, 9.9 x 3.9 mm, Pitch 1.27 mm Pitch; SubFamily: RS-232; Receivers Per Package: 2; RS-232: TRUE; IEC-61000-4-2 SUPPORT: TRUE; ComponentLink1Description: Manufacturer URL; ComponentLink1URL: www.ti.com; ComponentLink2Description: Datasheet; ComponentLink2URL: http://www.ti.com/general/docs/lit/getliterature.tsp?genericPartNumber=TRS202E&fileType=pdf; ComponentLink3Description: Package Specification; ComponentLink3URL: http://www.ti.com/litv/pdf/mpds178g
footprint TI-D16_N (SOIC, 16-Leads, Body 9.9x3.9mm, Pitch 1.27mm, IPC Medium Density)
footprint TI-D16_L (SOIC, 16-Leads, Body 9.9x3.9mm, Pitch 1.27mm, IPC High Density)
footprint TI-D16_M (SOIC, 16-Leads, Body 9.9x3.9mm, Pitch 1.27mm, IPC Low Density)
pins: 1 C1+, 2 V+ (power), 3 C1-, 4 C2+, 5 C2-, 6 V- (power), 7 DOUT2 (out), 8 RIN2 (in), 9 ROUT2 (out), 10 DIN2 (in), 11 DIN1 (in), 12 ROUT1 (out), 13 RIN1 (in), 14 DOUT1 (out), 15 GND (power), 16 VCC (power)

## TRS202ECDG4
designator U?
5-V Dual RS-232 Line Driver / Receiver with ±15-kV ESD Protection, 0 to 70 degC, 16-Pin  SOIC (D),  Green (RoHS & no Sb/Br); Drivers Per Package: 2; Supply Voltage(s)(V): 5; ESD HBM(kV): +/-15; ICC(Max)(mA): 15; Single Supply: TRUE; DatasheetVersion: SLLS847C; PackageVersion: revM, Jun-2011; PackageReference: D16; PackageDescription: 16-Pin Plastic Small Outline Integrated Circuit, 9.9 x 3.9 mm, Pitch 1.27 mm Pitch; SubFamily: RS-232; Receivers Per Package: 2; RS-232: TRUE; IEC-61000-4-2 SUPPORT: TRUE; ComponentLink1Description: Manufacturer URL; ComponentLink1URL: www.ti.com; ComponentLink2Description: Datasheet; ComponentLink2URL: http://www.ti.com/general/docs/lit/getliterature.tsp?genericPartNumber=TRS202E&fileType=pdf; ComponentLink3Description: Package Specification; ComponentLink3URL: http://www.ti.com/litv/pdf/mpds178g
footprint TI-D16_N (SOIC, 16-Leads, Body 9.9x3.9mm, Pitch 1.27mm, IPC Medium Density)
footprint TI-D16_L (SOIC, 16-Leads, Body 9.9x3.9mm, Pitch 1.27mm, IPC High Density)
footprint TI-D16_M (SOIC, 16-Leads, Body 9.9x3.9mm, Pitch 1.27mm, IPC Low Density)
pins: 1 C1+, 2 V+ (power), 3 C1-, 4 C2+, 5 C2-, 6 V- (power), 7 DOUT2 (out), 8 RIN2 (in), 9 ROUT2 (out), 10 DIN2 (in), 11 DIN1 (in), 12 ROUT1 (out), 13 RIN1 (in), 14 DOUT1 (out), 15 GND (power), 16 VCC (power)

## TRS202ECDW
designator U?
5-V Dual RS-232 Line Driver / Receiver with ±15-kV ESD Protection, 0 to 70 degC, 16-Pin  SOIC (DW),  Green (RoHS & no Sb/Br); Drivers Per Package: 2; Supply Voltage(s)(V): 5; ESD HBM(kV): +/-15; ICC(Max)(mA): 15; Single Supply: TRUE; DatasheetVersion: SLLS847C; PackageVersion: revG, Jan-2011; PackageReference: DW16; PackageDescription: 16-Pin Small Outline Integrated Circuit, 10.3 x 7.5 mm, Pitch 1.27 mm Pitch; SubFamily: RS-232; Receivers Per Package: 2; RS-232: TRUE; IEC-61000-4-2 SUPPORT: TRUE; ComponentLink1Description: Manufacturer URL; ComponentLink1URL: www.ti.com; ComponentLink2Description: Datasheet; ComponentLink2URL: http://www.ti.com/general/docs/lit/getliterature.tsp?genericPartNumber=TRS202E&fileType=pdf; ComponentLink3Description: Package Specification; ComponentLink3URL: http://www.ti.com/litv/pdf/msoi003g
footprint TI-DW16_N (SOIC, 16-Leads, Body 10.3x7.5mm, Pitch 1.27mm, IPC Medium Density)
footprint TI-DW16_L (SOIC, 16-Leads, Body 10.3x7.5mm, Pitch 1.27mm, IPC High Density)
footprint TI-DW16_M (SOIC, 16-Leads, Body 10.3x7.5mm, Pitch 1.27mm, IPC Low Density)
pins: 1 C1+, 2 V+ (power), 3 C1-, 4 C2+, 5 C2-, 6 V- (power), 7 DOUT2 (out), 8 RIN2 (in), 9 ROUT2 (out), 10 DIN2 (in), 11 DIN1 (in), 12 ROUT1 (out), 13 RIN1 (in), 14 DOUT1 (out), 15 GND (power), 16 VCC (power)

## TRS202ECN
designator U?
5-V Dual RS-232 Line Driver / Receiver with ±15-kV ESD Protection, 0 to 70 degC, 16-Pin  PDIP (N),  Pb-Free (RoHS); Drivers Per Package: 2; Supply Voltage(s)(V): 5; ESD HBM(kV): +/-15; ICC(Max)(mA): 15; Single Supply: TRUE; DatasheetVersion: SLLS847C; PackageVersion: revE, Dec-2002; PackageReference: N16; PackageDescription: 16-Pin Plastic Dual-In-Line Package, Row Spacing 7.62 mm, Pitch 2.54 mm; SubFamily: RS-232; Receivers Per Package: 2; RS-232: TRUE; IEC-61000-4-2 SUPPORT: TRUE; ComponentLink1Description: Manufacturer URL; ComponentLink1URL: www.ti.com; ComponentLink2Description: Datasheet; ComponentLink2URL: http://www.ti.com/general/docs/lit/getliterature.tsp?genericPartNumber=TRS202E&fileType=pdf; ComponentLink3Description: Package Specification; ComponentLink3URL: http://www.ti.com/litv/pdf/mpdi002c
footprint TI-N16 (DIP, 16-Leads, Row Spacing 7.62mm, Pitch 2.54mm, Body 19.3x6.4mm)
pins: 1 C1+, 2 V+ (power), 3 C1-, 4 C2+, 5 C2-, 6 V- (power), 7 DOUT2 (out), 8 RIN2 (in), 9 ROUT2 (out), 10 DIN2 (in), 11 DIN1 (in), 12 ROUT1 (out), 13 RIN1 (in), 14 DOUT1 (out), 15 GND (power), 16 VCC (power)

## TRS202ECPW
designator U?
5-V Dual RS-232 Line Driver / Receiver with ±15-kV ESD Protection, 0 to 70 degC, 16-Pin  TSSOP (PW),  Green (RoHS & no Sb/Br); Drivers Per Package: 2; Supply Voltage(s)(V): 5; ESD HBM(kV): +/-15; ICC(Max)(mA): 15; Single Supply: TRUE; DatasheetVersion: SLLS847C; PackageVersion: revG, Feb-2011; PackageReference: PW16; PackageDescription: 16-Pin Plastic Thin Small Outline Package 5 x 4.4 mm Body ,0.65 mm Pitch; SubFamily: RS-232; Receivers Per Package: 2; RS-232: TRUE; IEC-61000-4-2 SUPPORT: TRUE; ComponentLink1Description: Manufacturer URL; ComponentLink1URL: www.ti.com; ComponentLink2Description: Datasheet; ComponentLink2URL: http://www.ti.com/general/docs/lit/getliterature.tsp?genericPartNumber=TRS202E&fileType=pdf; ComponentLink3Description: Package Specification; ComponentLink3URL: http://www.ti.com/litv/pdf/mpds361
footprint TI-PW16_N (TSOP, 16-Leads, Body 5x4.4mm, Pitch 0.65mm, IPC Medium Density)
footprint TI-PW16_L (TSOP, 16-Leads, Body 5x4.4mm, Pitch 0.65mm, IPC High Density)
footprint TI-PW16_M (TSOP, 16-Leads, Body 5x4.4mm, Pitch 0.65mm, IPC Low Density)
pins: 1 C1+, 2 V+ (power), 3 C1-, 4 C2+, 5 C2-, 6 V- (power), 7 DOUT2 (out), 8 RIN2 (in), 9 ROUT2 (out), 10 DIN2 (in), 11 DIN1 (in), 12 ROUT1 (out), 13 RIN1 (in), 14 DOUT1 (out), 15 GND (power), 16 VCC (power)

## TRS202EID
designator U?
5-V Dual RS-232 Line Driver / Receiver with ±15-kV ESD Protection, -40 to 85 degC, 16-Pin  SOIC (D),  Green (RoHS & no Sb/Br); Drivers Per Package: 2; Supply Voltage(s)(V): 5; ESD HBM(kV): +/-15; ICC(Max)(mA): 15; Single Supply: TRUE; DatasheetVersion: SLLS847C; PackageVersion: revM, Jun-2011; PackageReference: D16; PackageDescription: 16-Pin Plastic Small Outline Integrated Circuit, 9.9 x 3.9 mm, Pitch 1.27 mm Pitch; SubFamily: RS-232; Receivers Per Package: 2; RS-232: TRUE; IEC-61000-4-2 SUPPORT: TRUE; ComponentLink1Description: Manufacturer URL; ComponentLink1URL: www.ti.com; ComponentLink2Description: Datasheet; ComponentLink2URL: http://www.ti.com/general/docs/lit/getliterature.tsp?genericPartNumber=TRS202E&fileType=pdf; ComponentLink3Description: Package Specification; ComponentLink3URL: http://www.ti.com/litv/pdf/mpds178g
footprint TI-D16_N (SOIC, 16-Leads, Body 9.9x3.9mm, Pitch 1.27mm, IPC Medium Density)
footprint TI-D16_L (SOIC, 16-Leads, Body 9.9x3.9mm, Pitch 1.27mm, IPC High Density)
footprint TI-D16_M (SOIC, 16-Leads, Body 9.9x3.9mm, Pitch 1.27mm, IPC Low Density)
pins: 1 C1+, 2 V+ (power), 3 C1-, 4 C2+, 5 C2-, 6 V- (power), 7 DOUT2 (out), 8 RIN2 (in), 9 ROUT2 (out), 10 DIN2 (in), 11 DIN1 (in), 12 ROUT1 (out), 13 RIN1 (in), 14 DOUT1 (out), 15 GND (power), 16 VCC (power)

## TRS202EIDW
designator U?
5-V Dual RS-232 Line Driver / Receiver with ±15-kV ESD Protection, -40 to 85 degC, 16-Pin  SOIC (DW),  Green (RoHS & no Sb/Br); Drivers Per Package: 2; Supply Voltage(s)(V): 5; ESD HBM(kV): +/-15; ICC(Max)(mA): 15; Single Supply: TRUE; DatasheetVersion: SLLS847C; PackageVersion: revG, Jan-2011; PackageReference: DW16; PackageDescription: 16-Pin Small Outline Integrated Circuit, 10.3 x 7.5 mm, Pitch 1.27 mm Pitch; SubFamily: RS-232; Receivers Per Package: 2; RS-232: TRUE; IEC-61000-4-2 SUPPORT: TRUE; ComponentLink1Description: Manufacturer URL; ComponentLink1URL: www.ti.com; ComponentLink2Description: Datasheet; ComponentLink2URL: http://www.ti.com/general/docs/lit/getliterature.tsp?genericPartNumber=TRS202E&fileType=pdf; ComponentLink3Description: Package Specification; ComponentLink3URL: http://www.ti.com/litv/pdf/msoi003g
footprint TI-DW16_N (SOIC, 16-Leads, Body 10.3x7.5mm, Pitch 1.27mm, IPC Medium Density)
footprint TI-DW16_L (SOIC, 16-Leads, Body 10.3x7.5mm, Pitch 1.27mm, IPC High Density)
footprint TI-DW16_M (SOIC, 16-Leads, Body 10.3x7.5mm, Pitch 1.27mm, IPC Low Density)
pins: 1 C1+, 2 V+ (power), 3 C1-, 4 C2+, 5 C2-, 6 V- (power), 7 DOUT2 (out), 8 RIN2 (in), 9 ROUT2 (out), 10 DIN2 (in), 11 DIN1 (in), 12 ROUT1 (out), 13 RIN1 (in), 14 DOUT1 (out), 15 GND (power), 16 VCC (power)

## TRS202EIN
designator U?
5-V Dual RS-232 Line Driver / Receiver with ±15-kV ESD Protection, -40 to 85 degC, 16-Pin  PDIP (N),  Pb-Free (RoHS); Drivers Per Package: 2; Supply Voltage(s)(V): 5; ESD HBM(kV): +/-15; ICC(Max)(mA): 15; Single Supply: TRUE; DatasheetVersion: SLLS847C; PackageVersion: revE, Dec-2002; PackageReference: N16; PackageDescription: 16-Pin Plastic Dual-In-Line Package, Row Spacing 7.62 mm, Pitch 2.54 mm; SubFamily: RS-232; Receivers Per Package: 2; RS-232: TRUE; IEC-61000-4-2 SUPPORT: TRUE; ComponentLink1Description: Manufacturer URL; ComponentLink1URL: www.ti.com; ComponentLink2Description: Datasheet; ComponentLink2URL: http://www.ti.com/general/docs/lit/getliterature.tsp?genericPartNumber=TRS202E&fileType=pdf; ComponentLink3Description: Package Specification; ComponentLink3URL: http://www.ti.com/litv/pdf/mpdi002c
footprint TI-N16 (DIP, 16-Leads, Row Spacing 7.62mm, Pitch 2.54mm, Body 19.3x6.4mm)
pins: 1 C1+, 2 V+ (power), 3 C1-, 4 C2+, 5 C2-, 6 V- (power), 7 DOUT2 (out), 8 RIN2 (in), 9 ROUT2 (out), 10 DIN2 (in), 11 DIN1 (in), 12 ROUT1 (out), 13 RIN1 (in), 14 DOUT1 (out), 15 GND (power), 16 VCC (power)

## TRS202EIPW
designator U?
5-V Dual RS-232 Line Driver / Receiver with ±15-kV ESD Protection, -40 to 85 degC, 16-Pin  TSSOP (PW),  Green (RoHS & no Sb/Br); Drivers Per Package: 2; Supply Voltage(s)(V): 5; ESD HBM(kV): +/-15; ICC(Max)(mA): 15; Single Supply: TRUE; DatasheetVersion: SLLS847C; PackageVersion: revG, Feb-2011; PackageReference: PW16; PackageDescription: 16-Pin Plastic Thin Small Outline Package 5 x 4.4 mm Body ,0.65 mm Pitch; SubFamily: RS-232; Receivers Per Package: 2; RS-232: TRUE; IEC-61000-4-2 SUPPORT: TRUE; ComponentLink1Description: Manufacturer URL; ComponentLink1URL: www.ti.com; ComponentLink2Description: Datasheet; ComponentLink2URL: http://www.ti.com/general/docs/lit/getliterature.tsp?genericPartNumber=TRS202E&fileType=pdf; ComponentLink3Description: Package Specification; ComponentLink3URL: http://www.ti.com/litv/pdf/mpds361
footprint TI-PW16_N (TSOP, 16-Leads, Body 5x4.4mm, Pitch 0.65mm, IPC Medium Density)
footprint TI-PW16_L (TSOP, 16-Leads, Body 5x4.4mm, Pitch 0.65mm, IPC High Density)
footprint TI-PW16_M (TSOP, 16-Leads, Body 5x4.4mm, Pitch 0.65mm, IPC Low Density)
pins: 1 C1+, 2 V+ (power), 3 C1-, 4 C2+, 5 C2-, 6 V- (power), 7 DOUT2 (out), 8 RIN2 (in), 9 ROUT2 (out), 10 DIN2 (in), 11 DIN1 (in), 12 ROUT1 (out), 13 RIN1 (in), 14 DOUT1 (out), 15 GND (power), 16 VCC (power)

## TRS202ID
designator U?
5-V Dual RS-232 Line Driver / Receiver with ±15-kV ESD Protection,  -40 to 85 degC, 16-Pin  SOIC (D),  Green (RoHS & no Sb/Br); Drivers Per Package: 2; Supply Voltage(s)(V): 5; ESD HBM(kV): +/-15; ICC(Max)(mA): 15; Single Supply: TRUE; DatasheetVersion: SLLS808; PackageVersion: revM, Jun-2011; PackageReference: D16; PackageDescription: 16-Pin Plastic Small Outline Integrated Circuit, 9.9 x 3.9 mm, Pitch 1.27 mm Pitch; SubFamily: RS-232; Receivers Per Package: 2; RS-232: TRUE; ComponentLink1Description: Manufacturer URL; ComponentLink1URL: www.ti.com; ComponentLink2Description: Datasheet; ComponentLink2URL: http://www.ti.com/general/docs/lit/getliterature.tsp?genericPartNumber=TRS202&fileType=pdf; ComponentLink3Description: Package Specification; ComponentLink3URL: http://www.ti.com/litv/pdf/mpds178g
footprint TI-D16_N (SOIC, 16-Leads, Body 9.9x3.9mm, Pitch 1.27mm, IPC Medium Density)
footprint TI-D16_L (SOIC, 16-Leads, Body 9.9x3.9mm, Pitch 1.27mm, IPC High Density)
footprint TI-D16_M (SOIC, 16-Leads, Body 9.9x3.9mm, Pitch 1.27mm, IPC Low Density)
pins: 1 C1+, 2 V+ (power), 3 C1-, 4 C2+, 5 C2-, 6 V- (power), 7 DOUT2 (out), 8 RIN2 (in), 9 ROUT2 (out), 10 DIN2 (in), 11 DIN1 (in), 12 ROUT1 (out), 13 RIN1 (in), 14 DOUT1 (out), 15 GND (power), 16 VCC (power)

## TRS202IDG4
designator U?
5-V Dual RS-232 Line Driver / Receiver with ±15-kV ESD Protection, -40 to 85 degC, 16-Pin  SOIC (D),  Green (RoHS & no Sb/Br); Drivers Per Package: 2; Supply Voltage(s)(V): 5; ESD HBM(kV): +/-15; ICC(Max)(mA): 15; Single Supply: TRUE; DatasheetVersion: SLLS808; PackageVersion: revM, Jun-2011; PackageReference: D16; PackageDescription: 16-Pin Plastic Small Outline Integrated Circuit, 9.9 x 3.9 mm, Pitch 1.27 mm Pitch; SubFamily: RS-232; Receivers Per Package: 2; RS-232: TRUE; ComponentLink1Description: Manufacturer URL; ComponentLink1URL: www.ti.com; ComponentLink2Description: Datasheet; ComponentLink2URL: http://www.ti.com/general/docs/lit/getliterature.tsp?genericPartNumber=TRS202&fileType=pdf; ComponentLink3Description: Package Specification; ComponentLink3URL: http://www.ti.com/litv/pdf/mpds178g
footprint TI-D16_N (SOIC, 16-Leads, Body 9.9x3.9mm, Pitch 1.27mm, IPC Medium Density)
footprint TI-D16_L (SOIC, 16-Leads, Body 9.9x3.9mm, Pitch 1.27mm, IPC High Density)
footprint TI-D16_M (SOIC, 16-Leads, Body 9.9x3.9mm, Pitch 1.27mm, IPC Low Density)
pins: 1 C1+, 2 V+ (power), 3 C1-, 4 C2+, 5 C2-, 6 V- (power), 7 DOUT2 (out), 8 RIN2 (in), 9 ROUT2 (out), 10 DIN2 (in), 11 DIN1 (in), 12 ROUT1 (out), 13 RIN1 (in), 14 DOUT1 (out), 15 GND (power), 16 VCC (power)

## TRS202IDR
designator U?
5-V Dual RS-232 Line Driver / Receiver with ±15-kV ESD Protection, -40 to 85 degC, 16-Pin  SOIC (D),  Green (RoHS & no Sb/Br); Drivers Per Package: 2; Supply Voltage(s)(V): 5; ESD HBM(kV): +/-15; ICC(Max)(mA): 15; Single Supply: TRUE; DatasheetVersion: SLLS808; PackageVersion: revM, Jun-2011; PackageReference: D16; PackageDescription: 16-Pin Plastic Small Outline Integrated Circuit, 9.9 x 3.9 mm, Pitch 1.27 mm Pitch; SubFamily: RS-232; Receivers Per Package: 2; RS-232: TRUE; ComponentLink1Description: Manufacturer URL; ComponentLink1URL: www.ti.com; ComponentLink2Description: Datasheet; ComponentLink2URL: http://www.ti.com/general/docs/lit/getliterature.tsp?genericPartNumber=TRS202&fileType=pdf; ComponentLink3Description: Package Specification; ComponentLink3URL: http://www.ti.com/litv/pdf/mpds178g
footprint TI-D16_N (SOIC, 16-Leads, Body 9.9x3.9mm, Pitch 1.27mm, IPC Medium Density)
footprint TI-D16_L (SOIC, 16-Leads, Body 9.9x3.9mm, Pitch 1.27mm, IPC High Density)
footprint TI-D16_M (SOIC, 16-Leads, Body 9.9x3.9mm, Pitch 1.27mm, IPC Low Density)
pins: 1 C1+, 2 V+ (power), 3 C1-, 4 C2+, 5 C2-, 6 V- (power), 7 DOUT2 (out), 8 RIN2 (in), 9 ROUT2 (out), 10 DIN2 (in), 11 DIN1 (in), 12 ROUT1 (out), 13 RIN1 (in), 14 DOUT1 (out), 15 GND (power), 16 VCC (power)

## TRS202IDRG4
designator U?
5-V Dual RS-232 Line Driver / Receiver with ±15-kV ESD Protection, -40 to 85 degC, 16-Pin  SOIC (D),  Green (RoHS & no Sb/Br); Drivers Per Package: 2; Supply Voltage(s)(V): 5; ESD HBM(kV): +/-15; ICC(Max)(mA): 15; Single Supply: TRUE; DatasheetVersion: SLLS808; PackageVersion: revM, Jun-2011; PackageReference: D16; PackageDescription: 16-Pin Plastic Small Outline Integrated Circuit, 9.9 x 3.9 mm, Pitch 1.27 mm Pitch; SubFamily: RS-232; Receivers Per Package: 2; RS-232: TRUE; ComponentLink1Description: Manufacturer URL; ComponentLink1URL: www.ti.com; ComponentLink2Description: Datasheet; ComponentLink2URL: http://www.ti.com/general/docs/lit/getliterature.tsp?genericPartNumber=TRS202&fileType=pdf; ComponentLink3Description: Package Specification; ComponentLink3URL: http://www.ti.com/litv/pdf/mpds178g
footprint TI-D16_N (SOIC, 16-Leads, Body 9.9x3.9mm, Pitch 1.27mm, IPC Medium Density)
footprint TI-D16_L (SOIC, 16-Leads, Body 9.9x3.9mm, Pitch 1.27mm, IPC High Density)
footprint TI-D16_M (SOIC, 16-Leads, Body 9.9x3.9mm, Pitch 1.27mm, IPC Low Density)
pins: 1 C1+, 2 V+ (power), 3 C1-, 4 C2+, 5 C2-, 6 V- (power), 7 DOUT2 (out), 8 RIN2 (in), 9 ROUT2 (out), 10 DIN2 (in), 11 DIN1 (in), 12 ROUT1 (out), 13 RIN1 (in), 14 DOUT1 (out), 15 GND (power), 16 VCC (power)

## TRS202IPWR
designator U?
5-V Dual RS-232 Line Driver / Receiver with ±15-kV ESD Protection, -40 to 85 degC, 16-Pin  TSSOP (PW),  Green (RoHS & no Sb/Br); Drivers Per Package: 2; Supply Voltage(s)(V): 5; ESD HBM(kV): +/-15; ICC(Max)(mA): 15; Single Supply: TRUE; DatasheetVersion: SLLS808; PackageVersion: revG, Feb-2011; PackageReference: PW16; PackageDescription: 16-Pin Plastic Thin Small Outline Package 5 x 4.4 mm Body ,0.65 mm Pitch; SubFamily: RS-232; Receivers Per Package: 2; RS-232: TRUE; ComponentLink1Description: Manufacturer URL; ComponentLink1URL: www.ti.com; ComponentLink2Description: Datasheet; ComponentLink2URL: http://www.ti.com/general/docs/lit/getliterature.tsp?genericPartNumber=TRS202&fileType=pdf; ComponentLink3Description: Package Specification; ComponentLink3URL: http://www.ti.com/litv/pdf/mpds361
footprint TI-PW16_N (TSOP, 16-Leads, Body 5x4.4mm, Pitch 0.65mm, IPC Medium Density)
footprint TI-PW16_L (TSOP, 16-Leads, Body 5x4.4mm, Pitch 0.65mm, IPC High Density)
footprint TI-PW16_M (TSOP, 16-Leads, Body 5x4.4mm, Pitch 0.65mm, IPC Low Density)
pins: 1 C1+, 2 V+ (power), 3 C1-, 4 C2+, 5 C2-, 6 V- (power), 7 DOUT2 (out), 8 RIN2 (in), 9 ROUT2 (out), 10 DIN2 (in), 11 DIN1 (in), 12 ROUT1 (out), 13 RIN1 (in), 14 DOUT1 (out), 15 GND (power), 16 VCC (power)

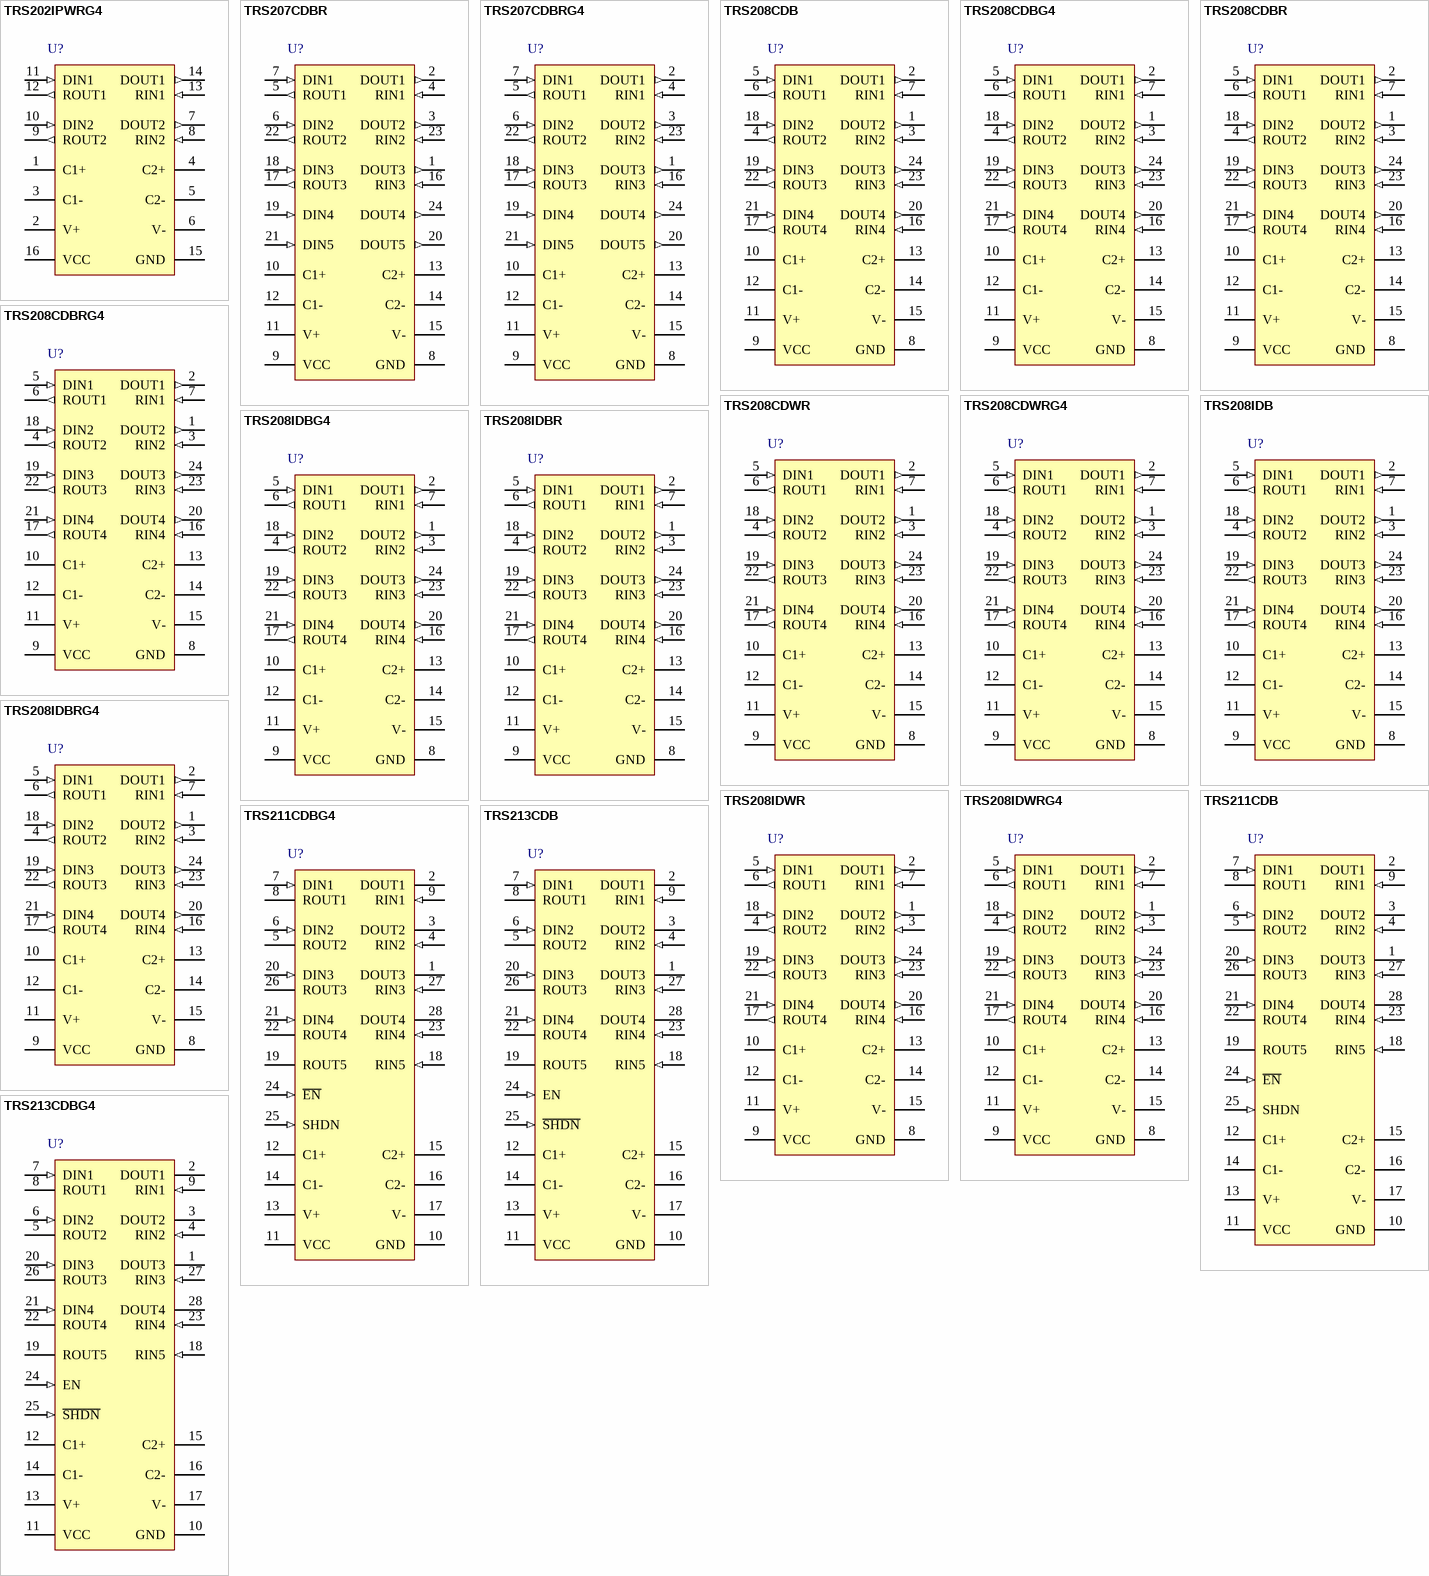
[diagram p42: symbols TRS202IPWRG4 to TRS213CDBG4]

## TRS202IPWRG4
designator U?
5-V Dual RS-232 Line Driver / Receiver with ±15-kV ESD Protection, -40 to 85 degC, 16-Pin  TSSOP (PW),  Green (RoHS & no Sb/Br); Drivers Per Package: 2; Supply Voltage(s)(V): 5; ESD HBM(kV): +/-15; ICC(Max)(mA): 15; Single Supply: TRUE; DatasheetVersion: SLLS808; PackageVersion: revG, Feb-2011; PackageReference: PW16; PackageDescription: 16-Pin Plastic Thin Small Outline Package 5 x 4.4 mm Body ,0.65 mm Pitch; SubFamily: RS-232; Receivers Per Package: 2; RS-232: TRUE; ComponentLink1Description: Manufacturer URL; ComponentLink1URL: www.ti.com; ComponentLink2Description: Datasheet; ComponentLink2URL: http://www.ti.com/general/docs/lit/getliterature.tsp?genericPartNumber=TRS202&fileType=pdf; ComponentLink3Description: Package Specification; ComponentLink3URL: http://www.ti.com/litv/pdf/mpds361
footprint TI-PW16_N (TSOP, 16-Leads, Body 5x4.4mm, Pitch 0.65mm, IPC Medium Density)
footprint TI-PW16_L (TSOP, 16-Leads, Body 5x4.4mm, Pitch 0.65mm, IPC High Density)
footprint TI-PW16_M (TSOP, 16-Leads, Body 5x4.4mm, Pitch 0.65mm, IPC Low Density)
pins: 1 C1+, 2 V+ (power), 3 C1-, 4 C2+, 5 C2-, 6 V- (power), 7 DOUT2 (out), 8 RIN2 (in), 9 ROUT2 (out), 10 DIN2 (in), 11 DIN1 (in), 12 ROUT1 (out), 13 RIN1 (in), 14 DOUT1 (out), 15 GND (power), 16 VCC (power)

## TRS207CDBR
designator U?
5-V Multichannel RS-232 Line Driver / Receiver with ±15-kV ESD Protection, 0 to 70 degC, 24-Pin SSOP (DB), Green (RoHS & no Sb/Br); Drivers Per Package: 5; Receivers Per Package: 3; ESD HBM(kV): +/-15; ICC(Max)(mA): 20; Single Supply: TRUE; DatasheetVersion: SLLS809; PackageVersion: revE, Dec-2001; PackageReference: DB24; PackageDescription: 24-Pin Plastic Small Outline Package, 8.2 x 5.3 mm Body, 0.65 mm Pitch; SubFamily: RS-232; Supply Voltage(s)(V): 5; RS-232: TRUE; ComponentLink1Description: Manufacturer URL; ComponentLink1URL: www.ti.com; ComponentLink2Description: Datasheet; ComponentLink2URL: http://www.ti.com/general/docs/lit/getliterature.tsp?genericPartNumber=TRS207&fileType=pdf; ComponentLink3Description: Package Specification; ComponentLink3URL: http://www.ti.com/litv/pdf/msso002e
footprint TI-DB24_N (SOP, 24-Leads, Body 8.2x5.3mm, Pitch 0.65mm, IPC Medium Density)
footprint TI-DB24_L (SOP, 24-Leads, Body 8.2x5.3mm, Pitch 0.65mm, IPC High Density)
footprint TI-DB24_M (SOP, 24-Leads, Body 8.2x5.3mm, Pitch 0.65mm, IPC Low Density)
pins: 1 DOUT3 (out), 2 DOUT1 (out), 3 DOUT2 (out), 4 RIN1 (in), 5 ROUT1 (out), 6 DIN2 (in), 7 DIN1 (in), 8 GND (power), 9 VCC (power), 10 C1+, 11 V+ (power), 12 C1-, 13 C2+, 14 C2-, 15 V- (power), 16 RIN3 (in), 17 ROUT3 (out), 18 DIN3 (in), 19 DIN4 (in), 20 DOUT5 (out), 21 DIN5 (in), 22 ROUT2 (out), 23 RIN2 (in), 24 DOUT4 (out)